# Altium schematic symbol library temp.SchLib: 11 symbols
Pins are listed as number, name and electrical type; pins without a type are passive.

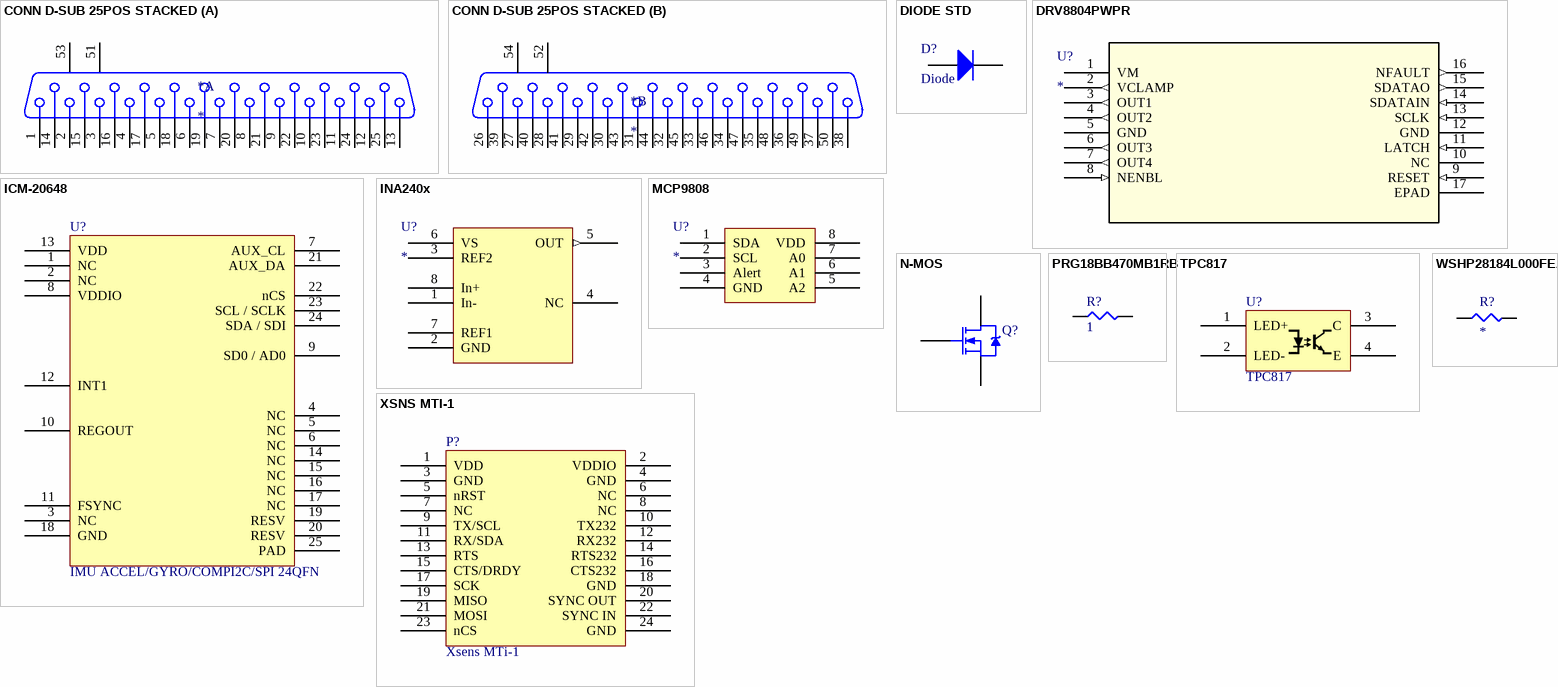
[diagram p0: symbols CONN D-SUB 25POS STACKED to XSNS MTI-1]

## CONN D-SUB 25POS STACKED
designator *
Stacked DSub; Manufacturer: Norcomp; Manufacturer P/N: 178-025-513R491; Digikey Link: https://www.digikey.com/product-detail/en/norcomp-inc/178-025-513R491/178-225FFE-ND/1692403; Digikey P/N: 178-225FFE-ND
footprint PCBComponent_1
part A pins: 1, 2, 3, 4, 5, 6, 7, 8, 9, 10, 11, 12, 13, 14, 15, 16, 17, 18, 19, 20, 21, 22, 23, 24, 25, 51 MH1, 53 MH2
part B pins: 26 1, 27 2, 28 3, 29 4, 30 5, 31 6, 32 7, 33 8, 34 9, 35 10, 36 11, 37 12, 38 13, 39 14, 40 15, 41 16, 42 17, 43 18, 44 19, 45 20, 46 21, 47 22, 48 23, 49 24, 50 25, 52 MH1, 54 MH2

## DIODE STD
designator D?, comment Diode
DIODE GEN PURP 200V 2A SOD123FL; Manufacturer: ON SEMI; Manufacturer P/N: NHP220SFT3G; Digikey Link: https://www.digikey.com/product-detail/en/on-semiconductor/NHP220SFT3G/NHP220SFT3GOSCT-ND/5801747; Digikey P/N: NHP220SFT3GOSCT-ND
footprint SODFL360X110-2N (SODFL, 2-Leads, Body 1.65x3.60mm, IPC Medium Density)
pins: 1 A, 2 K

## DRV8804PWPR
designator U?
IC MOTOR DRIVER SERIAL 16HTSSOP; Manufacturer: Texas Instruments; Manufacturer P/N: DRV8804PWPR; Built_By: EMA_UL_Team; C: Copyright (C) 2015 Accelerated Designs. All rights reserved; RefDes: RefDes; Type: DEV; Value: Value; Digikey P/N: 296-36584-1-ND; Digikey Link: https://www.digikey.sg/product-detail/en/texas-instruments/DRV8804PWPR/296-36584-1-ND/4341280
footprint PWP16_3P4X2P46-M
pins: 1 VM (power), 2 VCLAMP (out), 3 OUT1 (out), 4 OUT2 (out), 5 GND (power), 6 OUT3 (out), 7 OUT4 (out), 8 NENBL (in), 9 RESET (in), 10 NC, 11 LATCH (in), 12 GND (power), 13 SCLK (in), 14 SDATAIN (in), 15 SDATAO (out), 16 NFAULT (out), 17 EPAD

## ICM-20648
designator U?, comment IMU ACCEL/GYRO/COMPI2C/SPI 24QFN
Manufacturer: TDK InvenSense; Manufacturer P/N: ICM-20648; Digikey Link: https://www.digikey.com/product-detail/en/tdk-invensense/ICM-20648/1428-1061-1-ND/5872876; Digikey P/N: 1428-1061-1-ND
footprint QFN40P300X300X105-25N
footprint QFN40P300X300X105_HS-25N (QFN, 24-Leads, Body 3.00x3.00mm, Pitch 0.40mm, Thermal Pad 1.70x1.54mm, IPC Medium Density)
pins: 1 NC, 2 NC, 3 NC, 4 NC, 5 NC, 6 NC, 7 AUX_CL, 8 VDDIO, 9 SD0 / AD0, 10 REGOUT, 11 FSYNC, 12 INT1, 13 VDD, 14 NC, 15 NC, 16 NC, 17 NC, 18 GND, 19 RESV, 20 RESV, 21 AUX_DA, 22 nCS, 23 SCL / SCLK, 24 SDA / SDI, 25 PAD

## INA240x
designator U?
IC AMP CURRENT SENSE 8-TSSOP; Manufacturer: TI; Manufacturer P/N: INA240A1PWR; Digikey P/N: 296-45088-1-ND; Digikey Link: https://www.digikey.com/product-detail/en/texas-instruments/INA240A1PWR/296-45088-1-ND/6562101
footprint SOIC127P600X175-8N (SOIC, 8-Leads, Body 4.90x3.90mm, Pitch 1.27mm, IPC Medium Density)
pins: 1 In-, 2 GND (power), 3 REF2, 4 NC, 5 OUT (out), 6 VS (power), 7 REF1, 8 In+

## MCP9808
designator U?
I2C Temperature; Manufacturer P/N: MCP9808; Datasheet Link: http://ww1.microchip.com/downloads/en/DeviceDoc/MCP9808-0.5C-Maximum-Accuracy-Digital-Temperature-Sensor-Data-Sheet-DS20005095B.pdf; Digikey Link: https://www.digikey.com/product-detail/en/microchip-technology/MCP9808-E-MS/MCP9808-E-MS-ND/2802083; Digikey P/N: MCP9808-E/MS-ND
footprint TSOP65P490X65_HS-9N (TSOP, 8-Leads, Body 3.00x3.00mm, Pitch 0.65mm, Thermal Pad 0.00x0.00mm, IPC Medium Density)
pins: 1 SDA, 2 SCL, 3 Alert, 4 GND, 5 A2, 6 A1, 7 A0, 8 VDD

## N-MOS
designator Q?
N-Channel Power MOSFET, 12 A, 60 V; Manufacturer: ON SEMI; Manufacturer P/N: NTD3055L104T4G; Digikey Link: https://www.digikey.com/product-detail/en/on-semiconductor/NTD3055L104T4G/NTD3055L104T4GOSDKR-ND/1749196; Digikey P/N: NTD3055L104T4GOSDKR-ND
footprint DPAK228P991X238-3N (D-PAK, 3-Pads, Body 6.21x6.54mm (max), IPC Medium Density)
pins: 1 G, 3 S, 4 D

## PRG18BB470MB1RB
designator R?, comment 1
PTC RESET FUSE 6V 330MA 0603; Manufacturer P/N: PRG18BC1R0MM1RB; Manufacturer: Murata; Factory Stock: 0; Unit Price (USD): 0.10080; @ qty: 1500; Tolerance: ±1%; Power (Watts): 0.167W, 1/6W; Temperature Coefficient: ±250ppm/°C; Digikey Link: https://www.digikey.com/product-detail/en/murata-electronics-north-america/PRG18BC1R0MM1RB/490-8505-1-ND/4380768; Image: //media.digikey.com/Photos/Panasonic%20Photos/ERJ-PA2-Series.jpg; Digi-Key Part Number: 490-8505-1-ND; Quantity Available: 14922; Minimum Quantity: 1; Packaging: Cut Tape (CT); Part Status: Active; Value: 1; Composition: Thick Film; Features: Automotive AEC-Q200, Current Sense; Operating Temperature: -55°C ~ 125°C; Package / Case: 0603; Supplier Device Package: 0402; Size / Dimension: 0.039" L x 0.020" W (1.00mm x 0.50mm); Height - Seated (Max): 0.016" (0.40mm); Number of Terminations: 2; Failure Rate: -
footprint SMD-0603-RES
pins: 1, 2

## TPC817
designator U?
OPTOISO 5KV TRANS 4SOP; Manufacturer: Taiwan Semi; Manufacturer P/N: TPC817S1B RAG; Digikey Link: https://www.digikey.com/product-detail/en/taiwan-semiconductor-corporation/TPC817S1B-RAG/TPC817S1BRAGCT-ND/7359679; Digikey P/N: TPC817S1BRAGCT-ND
footprint SOT200P1005X328-5N (SOT23, 5-Leads, Body 4.60x10.05mm, Pitch 2.00mm, IPC Medium Density)
pins: 1 LED+, 2 LED-, 3 C, 4 E

## WSHP28184L000FEA
designator R?
RES 0.004 OHM 1% 10W 2818; Manufacturer: Vishay Dale; Manufacturer P/N: WSHP28184L000FEA; Digikey Link: https://www.digikey.com/product-detail/en/vishay-dale/WSHP28184L000FEA/541-3274-1-ND/6605250; Digikey P/N: 541-3274-1-ND
footprint RESC7146X15N (Chip Resistor, 2-Leads, Body 7.10x4.60mm, IPC Medium Density)
pins: 1, 2

## XSNS MTI-1
designator P?  (value not drawn)
MTi-3-8A7G6 3D AHRS/VRU/IMU Module; Manufacturer: Xsens; Manufacturer P/N: MTI-3-DK; Digikey Link: https://www.mouser.com/ProductDetail/Xsens/MTI-3-DK?qs=55YtniHzbhBGvlIRYNoxgQ%3d%3d; Digikey P/N: 512-MTI-3-DK
footprint MTI-3 (PinHeader 2x12 TH Pitch 2.54mm)
pins: 1 VDD, 2 VDDIO, 3 GND, 4 GND, 5 nRST, 6 NC, 7 NC, 8 NC, 9 TX/SCL, 10 TX232, 11 RX/SDA, 12 RX232, 13 RTS, 14 RTS232, 15 CTS/DRDY, 16 CTS232, 17 SCK, 18 GND, 19 MISO, 20 SYNC OUT, 21 MOSI, 22 SYNC IN, 23 nCS, 24 GND
text: Xsens MTi-1